# Altium schematic symbol library port3.SchLib: 1 symbol
Pins are listed as number, name and electrical type; pins without a type are passive.

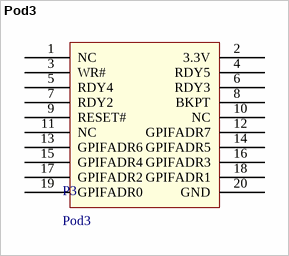
[diagram p0: symbol Pod3]

## Pod3
designator P3
footprint Pin Header 20x2
pins: 1 NC, 2 3.3V, 3 WR#, 4 RDY5, 5 RDY4, 6 RDY3, 7 RDY2, 8 BKPT, 9 RESET#, 10 NC, 11 NC, 12 GPIFADR7, 13 GPIFADR6, 14 GPIFADR5, 15 GPIFADR4, 16 GPIFADR3, 17 GPIFADR2, 18 GPIFADR1, 19 GPIFADR0, 20 GND